# Altium integrated library RC1206JR-07150RL.IntLib: 1 symbol
Pins are listed as number, name and electrical type; pins without a type are passive.

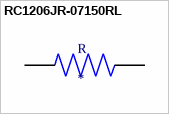
[diagram p0: symbol RC1206JR-07150RL]

## RC1206JR-07150RL
designator R
150 Ohms Â±5% 0.25W, 1/4W Chip Resistor 1206 _3216 Metric_ Moisture Resistant Thick Film; MP: RC1206JR-07150RL; MF: Yageo; Price: None; Value: *; Package: 3116 Yageo; SnapEDA_Link: https://www.snapeda.com/parts/RC1206JR-07150RL/Yageo/view-part/106123/?ref=snap; Availability: Unavailable
footprint RESC3116X65N
pins: 1, 2